# Altium integrated library CapacitoresIntiSat.IntLib: 33 symbols
Pins are listed as number, name and electrical type; pins without a type are passive.

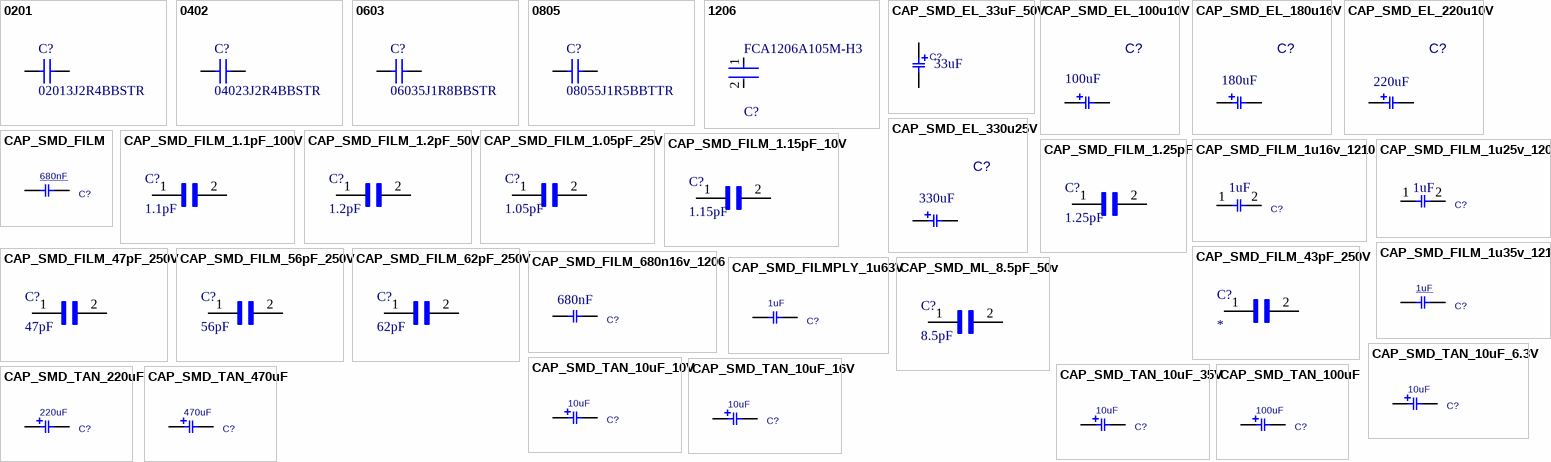
[diagram p0: symbols 0201 to CAP_SMD_TAN_470uF]

## 0201
designator C?, comment 02013J2R4BBSTR
Manufacturer: AVX Interconnect / Elco; Part Number: 02013J2R4BBSTR
footprint 0201 (CHIP Capacitor, 0.5x0.25mm, 0201)
pins: 1, 2
1 alternate drawing of the same symbol

## 0402
designator C?, comment 04023J2R4BBSTR
Manufacturer: AVX Interconnect / Elco; Part Number: 04023J2R4BBSTR
footprint CAPC1006X50X20LL10T10 (Chip Capacitor, 2-Leads, Body 1.00x0.55mm, IPC High Density)
footprint CAPC1006X50X20NL10T10 (Chip Capacitor, 2-Leads, Body 1.00x0.55mm, IPC Medium Density)
footprint CAPC1006X50X20ML10T10 (Chip Capacitor, 2-Leads, Body 1.00x0.55mm, IPC Low Density)
pins: 1, 2
1 alternate drawing of the same symbol

## 0603
designator C?, comment 06035J1R8BBSTR
Manufacturer: AVX Interconnect / Elco; Part Number: 06035J1R8BBSTR
footprint CAPC1608X73X35NL10T15 (Chip Capacitor, 2-Leads, Body 1.60x0.81mm, IPC Medium Density)
footprint CAPC1608X73X35ML10T15 (Chip Capacitor, 2-Leads, Body 1.60x0.81mm, IPC Low Density)
footprint CAPC1608X73X35LL10T15 (Chip Capacitor, 2-Leads, Body 1.60x0.81mm, IPC High Density)
pins: 1, 2
1 alternate drawing of the same symbol

## 0805
designator C?, comment 08055J1R5BBTTR
Manufacturer: AVX Interconnect / Elco; Part Number: 08055J1R5BBTTR
footprint CAPC2013X113X30LL10T10 (Chip Capacitor, 2-Leads, Body 2.01x1.27mm, IPC High Density)
footprint CAPC2013X113X30NL10T10 (Chip Capacitor, 2-Leads, Body 2.01x1.27mm, IPC Medium Density)
footprint CAPC2013X113X30ML10T10 (Chip Capacitor, 2-Leads, Body 2.01x1.27mm, IPC Low Density)
pins: 1, 2
1 alternate drawing of the same symbol

## 1206
designator C?, comment FCA1206A105M-H3
CAP FILM 1UF 20% 10VDC 1206; Manufacturer: Cornell Dubilier Electronics; Voltage Rating Ac: 12V; Material: Acrylic, Metallized; Voltage Rating: 16V; Footprint Url: https://www.cde.com/resources/catalogs/FilmChipAppGuide.pdf; Tolerance: 20%; Mouser Description: FCA Series 10 V 1 uF ±20% 1206 SMT Metallized Acrylic Fim Capacitor; Category: Cap; Digikey Description: CAP FILM 1UF 20% 10VDC 1206; Temperature Range High: +85°C; ComponentLink2URL: https://www.cde.com/resources/catalogs/FCA.pdf; Device Class L1: Passive Components; Device Class L2: Capacitors; Package: FCA1206-H3; Height: 1.6mm; Value: 1uF; Manufacturer Part Number: FCA1206A105M-H3; Lead Free: Yes; Temperature Range Low: -40°C; Automotive: No; RoHS: TRUE; Ipc Land Pattern Name: CAPC320160X140; Device Class L3: Film Capacitors; Octopart: https://octopart.com/fca1206a105m-h3-cornell+dubilier-7141523; ComponentLink2Description: Datasheet; Temperature: -40°C to +85°C; Capacitance: 1uF
footprint FP-FCA1206-H3-IPC_C
footprint FP-FCA1206-H3-IPC_A
footprint FP-FCA1206-H3-IPC_B
footprint FP-FCA1206-H3-MFG
pins: 1, 2

## CAP_SMD_EL_33uF_50V
designator C?  Capacitance: 33uF
CAP ALUM POLY HYB 33UF 50V SMD; Manufacturer: United Chemi-Con; Manufacturer Part Number: HHXB500ARA330MF80G; Dissipation Factor: 0.1%; ESR (Equivalent Series Resistance): 40mR; Polarity: Polar; Ripple Current: 1.6A; Life (Hours): 5000Hour; Tolerance: 20%; Supplier 1: Mouser; RoHS: Yes; Category: Aluminum Electrolytic Capacitors; Stock 1: 2107; Pricing 1: 1=1.43000, 10=0.98100, 100=0.84800, 500=0.80400, 900=0.54800, 1800=0.50300 (USD); Mount: Surface Mount; Case/Package: Radial; Min Operating Temperature: -55°C; Max Operating Temperature: 105°C; Termination: SMD/SMT; Voltage Rating (DC): 50V; Package Quantity: 900; Packaging: Tape and Reel; Voltage Rating: 50V; Diameter: 6.3mm; Length: 7.2mm; Height: 7.7mm; Width: 6.6mm; Height - Seated (Max): 0.315inch; REACH SVHC: Unknown; Lead Free: Lead Free; ComponentLink1URL: http://www.farnell.com/datasheets/1848398.pdf?src-supplier=Farnell; ComponentLink1Description: http://www.farnell.com/datasheets/1848398.pdf?src-supplier=Farnell; ComponentLink2URL: http://www.mouser.com/ds/2/420/al-hxb-bulletin831e-e-140325-345764.pdf?src-supplier=Mouser; ComponentLink2Description: http://www.mouser.com/ds/2/420/al-hxb-bulletin831e-e-140325-345764.pdf?src-supplier=Mouser; ComponentLink3URL: http://www.chemi-con.co.jp/cgi-bin/CAT_DB/SEARCH/cat_db_al.cgi?e=e&j=p&pdfname=hxb&src-supplier=Digi-Key; ComponentLink3Description: http://www.chemi-con.co.jp/cgi-bin/CAT_DB/SEARCH/cat_db_al.cgi?e=e&j=p&pdfname=hxb&src-supplier=Digi-Key; ComponentLink4URL: http://www.farnell.com/datasheets/2344945.pdf?src-supplier=Newark; ComponentLink4Description: http://www.farnell.com/datasheets/2344945.pdf?src-supplier=Newark; ComponentLink5URL: http://www.farnell.com/datasheets/1848398.pdf?src-supplier=Element14; ComponentLink5Description: http://www.farnell.com/datasheets/1848398.pdf?src-supplier=Element14; Supplier Part Number 1: 661-HHXB500A330MF80G
footprint C_EL_6_8 (Footprint not found)
pins: 1, 2

## CAP_SMD_EL_100u10V
designator C?  Capacitance: 100uF
CAP ALUM POLY 100UF 20% 10V SMD; Manufacturer: Wurth Electronics; Manufacturer Part Number: 875105242010; ESR (Equivalent Series Resistance): 30mR; Polarity: Polar; Ripple Current: 1.97A; Life (Hours): 2000Hour; Supplier 1: Mouser; RoHS: Yes; Category: Polymer Capacitors; Stock 1: 658; Pricing 1: 1=0.56000, 50=0.47600, 100=0.41400, 250=0.36800, 500=0.32200, 1000=0.30700 (USD); Mount: Surface Mount; Case/Package: Radial; Min Operating Temperature: -55°C; Max Operating Temperature: 105°C; Package Quantity: 1000; Packaging: Tape and Reel; Voltage Rating: 10V; Tolerance: 20%; Voltage Rating (DC): 10V; Height - Seated (Max): 0.217inch; REACH SVHC: Unknown; ComponentLink1URL: http://www.farnell.com/datasheets/1880491.pdf?src-supplier=Farnell; ComponentLink1Description: http://www.farnell.com/datasheets/1880491.pdf?src-supplier=Farnell; ComponentLink2URL: http://www.farnell.com/datasheets/1880491.pdf?src-supplier=Element14; ComponentLink2Description: http://www.farnell.com/datasheets/1880491.pdf?src-supplier=Element14; ComponentLink3URL: http://www.farnell.com/datasheets/1880491.pdf?src-supplier=Newark; ComponentLink3Description: http://www.farnell.com/datasheets/1880491.pdf?src-supplier=Newark; ComponentLink4URL: http://katalog.we-online.de/pbs/datasheet/875105242010.pdf?src-supplier=Digi-Key; ComponentLink4Description: http://katalog.we-online.de/pbs/datasheet/875105242010.pdf?src-supplier=Digi-Key; ComponentLink5URL: https://katalog.we-online.de/pbs/datasheet/875105242010.pdf?src-supplier=Digi-Key; ComponentLink5Description: https://katalog.we-online.de/pbs/datasheet/875105242010.pdf?src-supplier=Digi-Key; Supplier Part Number 1: 710-875105242010
footprint C_EL_5 (Electrolytic Cap, D: 5.0mm, L: 5.8mm, Size C)
pins: 1, 2

## CAP_SMD_EL_180u16V
designator C?  Capacitance: 180uF
PANASONIC - 16SVPE180M - CAP, 180µF, 16V, 20%, RADIAL; ESR (Equivalent Series Resistance): 11mR; Ripple Current: 4.46A; Dissipation Factor: 12%; Leakage Current: 576uA; Polarity: Polar; Life (Hours): 2000Hour; Supplier 1: Mouser; Manufacturer: Panasonic; Manufacturer Part Number: 16SVPE180M; RoHS: Yes; Category: Aluminum Electrolytic Capacitors; Stock 1: 58; Pricing 1: 1=1.46000, 10=1.14000, 100=0.86100, 500=0.56600, 1000=0.49900, 2500=0.46600, 5000=0.45300, 10000=0.42400, 25000=0.41600 (USD); Mount: Surface Mount; Case/Package: Radial; Number of Pins: 10; Min Operating Temperature: -55°C; Max Operating Temperature: 105°C; Packaging: Tape and Reel; Tolerance: 20%; Voltage Rating: 16V; Voltage Rating (DC): 16V; Package Quantity: 500; Ripple Current (AC): 4.46A; Termination: SMD/SMT; Voltage: 16V; Diameter: 6.3mm; Length: 9.9mm; Height: 9.9mm; Height - Seated (Max): 0.394inch; Radiation Hardening: No; REACH SVHC: No SVHC; Lead Free: Lead Free; ComponentLink1URL: https://datasheet.ciiva.com/26937/getdatasheetpartid-779526-26937142.pdf?src-supplier=Verical; ComponentLink1Description: https://datasheet.ciiva.com/26937/getdatasheetpartid-779526-26937142.pdf?src-supplier=Verical; ComponentLink2URL: https://datasheet.ciiva.com/25740/1734359-25740891.pdf?src-supplier=Farnell; ComponentLink2Description: https://datasheet.ciiva.com/25740/1734359-25740891.pdf?src-supplier=Farnell; ComponentLink3URL: https://datasheet.ciiva.com/22746/1734359-22746186.pdf?src-supplier=Element14; ComponentLink3Description: https://datasheet.ciiva.com/22746/1734359-22746186.pdf?src-supplier=Element14; Supplier Part Number 1: 667-16SVPE180M
footprint C_EL_6_8 (Electrolytic Cap, D: 6.3mm L: 7.7mm, Size D)
pins: 1, 2

## CAP_SMD_EL_220u10V
designator C?  Capacitance: 220uF
WURTH ELEKTRONIK         875105244013             Electrolytic Capacitor, 220 F, 10 V, WCAP-PSLP Series, Radial Can - SMD, -55 C; Manufacturer: Wurth Electronics; Voltage Rating (DC): 10V; ESR (Equivalent Series Resistance): 30mR; Polarity: Polar; Ripple Current: 1.97A; Life (Hours): 2000Hour; Tolerance: 20%; Supplier 1: Mouser; Manufacturer Part Number: 875105244013; RoHS: Yes; Category: Polymer Capacitors; Stock 1: 1916; Pricing 1: 1=0.66000, 50=0.56200, 100=0.49000, 250=0.43500, 500=0.38100, 1000=0.36300 (USD); Mount: Surface Mount; Case/Package: Radial; Min Operating Temperature: -55°C; Max Operating Temperature: 105°C; Package Quantity: 1000; Packaging: Tape and Reel; Voltage Rating: 10V; Height - Seated (Max): 0.228inch; REACH SVHC: Unknown; ComponentLink1URL: http://www.farnell.com/datasheets/1880494.pdf?src-supplier=Farnell; ComponentLink1Description: http://www.farnell.com/datasheets/1880494.pdf?src-supplier=Farnell; ComponentLink2URL: https://katalog.we-online.de/pbs/datasheet/875105244013.pdf?src-supplier=Digi-Key; ComponentLink2Description: https://katalog.we-online.de/pbs/datasheet/875105244013.pdf?src-supplier=Digi-Key; ComponentLink3URL: http://www.farnell.com/datasheets/1880494.pdf?src-supplier=Newark; ComponentLink3Description: http://www.farnell.com/datasheets/1880494.pdf?src-supplier=Newark; ComponentLink4URL: http://www.farnell.com/datasheets/1880494.pdf?src-supplier=Element14; ComponentLink4Description: http://www.farnell.com/datasheets/1880494.pdf?src-supplier=Element14; ComponentLink5URL: http://katalog.we-online.de/pbs/datasheet/875105244013.pdf?src-supplier=Digi-Key; ComponentLink5Description: http://katalog.we-online.de/pbs/datasheet/875105244013.pdf?src-supplier=Digi-Key; Supplier Part Number 1: 710-875105244013
footprint C_EL_6_6 (Electrolytic Cap, D: 6.3mm L: 5.8mm, Size D)
pins: 1, 2

## CAP_SMD_EL_330u25V
designator C?  Capacitance: 330uF
Capacitor;  Alum Electrolytic;  Cap 330 uF;  Tol 20%;  Vol-Rtg 25 VDC;  SMT;  8x10.5;  CT; Manufacturer: Panasonic; Manufacturer Part Number: EEE-1EA331UP; Ripple Current: 270mA; Life (Hours): 2000Hour; Voltage Rating: 25V; Leakage Current: 3uA; Supplier 1: Arrow Electronics; RoHS: Yes; Category: Aluminum Electrolytic Capacitors; Stock 1: 7000; Pricing 1: 500=0.19230, 1000=0.14820, 2500=0.14670, 10000=0.14520, 25000=0.14380, 50000=0.14230 (USD); Mount: Surface Mount,PCB; Case/Package: Radial; Contact Plating: Tin; Min Operating Temperature: -40°C; Max Operating Temperature: 85°C; Tolerance: 20%; Termination: SMD/SMT; Packaging: Tape and Reel; Package Quantity: 1; Voltage Rating (DC): 25V; Voltage: 25V; Ripple Current (AC): 270mA; Diameter: 8mm; Length: 10.5mm; Height: 10.2mm; Height - Seated (Max): 0.402inch; Radiation Hardening: No; Lead Free: Lead Free; REACH SVHC: No SVHC; ComponentLink1URL: https://datasheet.ciiva.com/24070/aba0000ce2-40801-24070005.pdf?src-supplier=Mouser; ComponentLink1Description: https://datasheet.ciiva.com/24070/aba0000ce2-40801-24070005.pdf?src-supplier=Mouser; ComponentLink2URL: https://datasheet.ciiva.com/46378/aba0000ce2-46378294.pdf?src-supplier=Element14; ComponentLink2Description: https://datasheet.ciiva.com/46378/aba0000ce2-46378294.pdf?src-supplier=Element14; ComponentLink3URL: https://datasheet.ciiva.com/30071/11aba0000ce2-30071959.pdf?src-supplier=Onlinecomponents.com; ComponentLink3Description: https://datasheet.ciiva.com/30071/11aba0000ce2-30071959.pdf?src-supplier=Onlinecomponents.com; ComponentLink4URL: https://datasheet.ciiva.com/31414/aba0000ce2-31414664.pdf?src-supplier=Farnell; ComponentLink4Description: https://datasheet.ciiva.com/31414/aba0000ce2-31414664.pdf?src-supplier=Farnell; ComponentLink5URL: https://datasheet.ciiva.com/46374/aba0000ce2-46374392.pdf?src-supplier=Element14; ComponentLink5Description: https://datasheet.ciiva.com/46374/aba0000ce2-46374392.pdf?src-supplier=Element14; ComponentLink6URL: https://datasheet.ciiva.com/16397/aba0000ce2-16397068.pdf?src-supplier=Future+Electronics; ComponentLink6Description: https://datasheet.ciiva.com/16397/aba0000ce2-16397068.pdf?src-supplier=Future+Electronics; ComponentLink7URL: https://datasheet.ciiva.com/17535/aba0000ce2-17535308.pdf?src-supplier=Avnet+Europe; ComponentLink7Description: https://datasheet.ciiva.com/17535/aba0000ce2-17535308.pdf?src-supplier=Avnet+Europe; ComponentLink8URL: https://datasheet.ciiva.com/2985/aba0000ce2-2985133.pdf?src-supplier=Avnet; ComponentLink8Description: https://datasheet.ciiva.com/2985/aba0000ce2-2985133.pdf?src-supplier=Avnet; ComponentLink9URL: https://datasheet.ciiva.com/14610/70255710-14610287.pdf?src-supplier=Allied+Electronics; ComponentLink9Description: https://datasheet.ciiva.com/14610/70255710-14610287.pdf?src-supplier=Allied+Electronics; Supplier Part Number 1: EEE-1EA331UP
footprint C_EL_8 (Electrolytic Capacitor, Size E, Size F, 8X10)
pins: 1, 2

## CAP_SMD_FILM
designator C?, comment 680nF
CAP, FILM, 680nF, 16V, Acryl, 20%, 1206; PARAM: Acrylic, MetallizedStacked, 20%, -40~85oC; MANF: Murata; PRICE: 100= 40$; DESC: -; MANF_P#: -; PARAM2: 16V; ASSEMBLY: ASSEMBLY; VALUE: 680nF
footprint C1206 (CHIP Capacitor, 3.2X1.6mm, 1206)
pins: 1, 2

## CAP_SMD_FILM_1.1pF_100V
designator C?, comment 1.1pF
Silicon RF Capacitors / Thin Film 100V 1.1pF 0.02pFTol ThinFilm 0603
footprint 0603 (1608, 160X80, 1.6x0.8mm (1.75x0.95mm))
pins: 1, 2

## CAP_SMD_FILM_1.2pF_50V
designator C?, comment 1.2pF
Silicon RF Capacitors / Thin Film 50V 1.2pF .02pFTol T hinFilm 0603
footprint 0603 (1608, 160X80, 1.6x0.8mm (1.75x0.95mm))
pins: 1, 2

## CAP_SMD_FILM_1.05pF_25V
designator C?, comment 1.05pF
Silicon RF Capacitors / Thin Film 25V 1.05pF .02pFTol ThinFilm 0402
footprint 0402 (0402, 1005, 100X50, 1.00x0.5mm ( 1.1x0.6mm))
pins: 1, 2

## CAP_SMD_FILM_1.15pF_10V
designator C?, comment 1.15pF
/ Silicon RF Capacitors / Thin Film 10V 1.15pF .02pFTol ThinFilm 0201
footprint 0201 (CHIP Capacitor, 0.5x0.25mm, 0201)
pins: 1, 2

## CAP_SMD_FILM_1.25pF
designator C?, comment 1.25pF
Cap Silicon 1.25pF 10V 0±30ppm/°C 0.02pF SMD 0201 125°C T/R
footprint 0201 (CHIP Capacitor, 0.5x0.25mm, 0201)
pins: 1, 2

## CAP_SMD_FILM_1u16v_1210
designator C?  Capacitance: 1uF
Cap Film 1uF 16V 20% (3.2 X 2.5 X 1.4mm) SMD 85C T/R; Manufacturer: Panasonic; Manufacturer Part Number: ECP-U1C105MA5; Dielectric: PPS; Insulation Resistance: 300MR; Dissipation Factor: 1.5%; Supplier 1: Mouser; RoHS: Yes; Category: Film Capacitors; Stock 1: 1330; Pricing 1: 1=0.64000, 10=0.48300, 100=0.34400, 500=0.28800, 1000=0.24200, 2000=0.19500 (USD); Mount: Surface Mount; Case/Package: 1210; Number of Pins: 2; Case Code (Metric): 3225; Case Code (Imperial): 1210; Contact Plating: Copper,Tin,Silver; Min Operating Temperature: -40°C; Max Operating Temperature: 85°C; Tolerance: 20%; Termination: SMD/SMT; Packaging: Tape and Reel; Package Quantity: 1; Voltage Rating (DC): 16V; Voltage: 16V; Voltage Rating: 16V; Length: 3.2mm; Height: 1.4mm; Height - Seated (Max): 0.063inch; Depth: 2.5mm; Width: 2.5mm; Radiation Hardening: No; Lead Free: Lead Free; REACH SVHC: No SVHC; ComponentLink1URL: https://datasheet.ciiva.com/34303/1983192-34303533.pdf?src-supplier=Jameco; ComponentLink1Description: https://datasheet.ciiva.com/34303/1983192-34303533.pdf?src-supplier=Jameco; ComponentLink2URL: https://datasheet.ciiva.com/11790/0900766b80f2ea72-11790686.pdf?src-supplier=RSComponents; ComponentLink2Description: https://datasheet.ciiva.com/11790/0900766b80f2ea72-11790686.pdf?src-supplier=RSComponents; ComponentLink3URL: https://datasheet.ciiva.com/24023/abd0000ce12-181823-24023616.pdf?src-supplier=Mouser; ComponentLink3Description: https://datasheet.ciiva.com/24023/abd0000ce12-181823-24023616.pdf?src-supplier=Mouser; ComponentLink4URL: https://datasheet.ciiva.com/15164/getdatasheetpartid-292104-15164029.pdf?src-supplier=Verical; ComponentLink4Description: https://datasheet.ciiva.com/15164/getdatasheetpartid-292104-15164029.pdf?src-supplier=Verical; ComponentLink5URL: https://datasheet.ciiva.com/16433/abd0000ce12-16433502.pdf?src-supplier=Future+Electronics; ComponentLink5Description: https://datasheet.ciiva.com/16433/abd0000ce12-16433502.pdf?src-supplier=Future+Electronics; ComponentLink6URL: https://datasheet.ciiva.com/2992/abd0000ce12-2992994.pdf?src-supplier=Avnet; ComponentLink6Description: https://datasheet.ciiva.com/2992/abd0000ce12-2992994.pdf?src-supplier=Avnet; ComponentLink7URL: https://datasheet.ciiva.com/2992/abd0000ce12-2992995.pdf?src-supplier=Avnet; ComponentLink7Description: https://datasheet.ciiva.com/2992/abd0000ce12-2992995.pdf?src-supplier=Avnet; ComponentLink8URL: https://datasheet.ciiva.com/5710/31740-5710134.pdf?src-supplier=Farnell; ComponentLink8Description: https://datasheet.ciiva.com/5710/31740-5710134.pdf?src-supplier=Farnell; ComponentLink9URL: https://datasheet.ciiva.com/30120/abd0000ce12-30120298.pdf?src-supplier=Onlinecomponents.com; ComponentLink9Description: https://datasheet.ciiva.com/30120/abd0000ce12-30120298.pdf?src-supplier=Onlinecomponents.com; ComponentLink10URL: https://datasheet.ciiva.com/46399/31740-46399787.pdf?src-supplier=Element14; ComponentLink10Description: https://datasheet.ciiva.com/46399/31740-46399787.pdf?src-supplier=Element14; ComponentLink11URL: https://datasheet.ciiva.com/46399/31740-46399788.pdf?src-supplier=Element14; ComponentLink11Description: https://datasheet.ciiva.com/46399/31740-46399788.pdf?src-supplier=Element14; Supplier Part Number 1: 667-ECP-U1C105MA5
footprint C1210 (CHIP Capacitor, 3.2X2.5mm, 1210, 3225)
pins: 1, 2

## CAP_SMD_FILM_1u25v_1206
designator C?  Capacitance: 1uF
Cap Film 1UF 20% 25V SMD; Manufacturer: Rubycon; Manufacturer Part Number: 25MU105MA23216; Supplier 1: Mouser; RoHS: Yes; Category: Film Capacitors; Stock 1: 1645; Pricing 1: 1=4.63000, 10=3.73000, 25=2.92000, 100=2.53000, 250=2.08000, 500=1.88000, 1000=1.69000, 3000=1.65000 (USD); Mount: Surface Mount; Case/Package: 1206; Case Code (Metric): 3216; Case Code (Imperial): 1206; Min Operating Temperature: -55°C; Max Operating Temperature: 125°C; Package Quantity: 200; Packaging: Tape and Reel; Voltage Rating (DC): 25V; Tolerance: 20%; Length: 0.126inch; Width: 0.063inch; Height - Seated (Max): 0.062inch; ComponentLink1URL: http://www.rubycon.co.jp/en/catalog/e_pdfs/pmlcap/e_MU.pdf?src-supplier=Digi-Key; ComponentLink1Description: http://www.rubycon.co.jp/en/catalog/e_pdfs/pmlcap/e_MU.pdf?src-supplier=Digi-Key; Supplier Part Number 1: 232-25MU105MA23216
footprint C1206 (CHIP Capacitor, 3.2X1.6mm, 1206)
pins: 1, 2

## CAP_SMD_FILM_1u35v_1210
designator C?, comment 1uF
CAP, FILM, 680nF, 35V, Acryl, 20%, 1210; PARAM: AcrylicMetallized, 20%, -55~125oC; MANF_P#: 35ST105MB13225; MANF: Rubycon; PRICE: 100= 270$; DESC: -; PARAM2: 35V; ASSEMBLY: ASSEMBLY; VALUE: 1uF
footprint C1210 (CHIP Capacitor, 3.2X2.5mm, 1210, 3225)
pins: 1, 2

## CAP_SMD_FILM_43pF_250V
designator C?
Silicon RF Capacitors / Thin Film 250volts 43pF 1%
footprint 0603 (1608, 160X80, 1.6x0.8mm (1.75x0.95mm))
pins: 1, 2

## CAP_SMD_FILM_47pF_250V
designator C?, comment 47pF
Silicon RF Capacitors / Thin Film 250volts 47pF 1%
footprint 0603 (1608, 160X80, 1.6x0.8mm (1.75x0.95mm))
pins: 1, 2

## CAP_SMD_FILM_56pF_250V
designator C?, comment 56pF
Silicon RF Capacitors / Thin Film 250volts 56pF 1%
footprint 0603 (1608, 160X80, 1.6x0.8mm (1.75x0.95mm))
pins: 1, 2

## CAP_SMD_FILM_62pF_250V
designator C?, comment 62pF
/ Silicon RF Capacitors / Thin Film 250volts 62pF 1%
footprint 0805 (,0805, 2012, 200X130)
pins: 1, 2

## CAP_SMD_FILM_680n16v_1206
designator C?  Capacitance: 680nF
CAPACITOR PPS FILM, 0.68UF, 16V, 20%, 1206, FULL REEL; Product Range:ECPU(A) Series; Capacitance:0.68 F; Capacitance Tolerance: 20%; Capacitor Dielectric Type:PPS (Polyphenylene Sulphide); Voltage Rating:16V; Capacitor Terminals:SMD;RoHS Compliant: Yes; Manufacturer: Panasonic; Manufacturer Part Number: ECP-U1C684MA5; Dissipation Factor: 1.5%; Insulation Resistance: 204MR; Supplier 1: Mouser; RoHS: Yes; Category: Film Capacitors; Stock 1: 2159; Pricing 1: 1=0.79000, 10=0.59900, 100=0.41100, 500=0.32500, 1000=0.27400, 2000=0.22700, 24000=0.21500 (USD); Mount: Surface Mount; Case/Package: 1206; Number of Pins: 2; Case Code (Metric): 3216; Case Code (Imperial): 1206; Contact Plating: Copper,Tin,Silver; Min Operating Temperature: -40°C; Max Operating Temperature: 85°C; Tolerance: 20%; Packaging: Tape and Reel; Package Quantity: 1; Voltage Rating (DC): 16V; Voltage Rating: 16V; Termination: SMD/SMT; Dielectric: PPS; Voltage: 16V; Length: 3.2mm; Height: 1.4mm; Width: 1.6mm; Height - Seated (Max): 0.063inch; Depth: 1.6mm; Radiation Hardening: No; REACH SVHC: No SVHC; Lead Free: Lead Free; ComponentLink1URL: https://datasheet.ciiva.com/5710/31740-5710144.pdf?src-supplier=Farnell; ComponentLink1Description: https://datasheet.ciiva.com/5710/31740-5710144.pdf?src-supplier=Farnell; ComponentLink2URL: https://datasheet.ciiva.com/15225/getdatasheetpartid-259011-15225611.pdf?src-supplier=Verical; ComponentLink2Description: https://datasheet.ciiva.com/15225/getdatasheetpartid-259011-15225611.pdf?src-supplier=Verical; ComponentLink3URL: https://datasheet.ciiva.com/11792/0900766b80f2ea72-11792215.pdf?src-supplier=RSComponents; ComponentLink3Description: https://datasheet.ciiva.com/11792/0900766b80f2ea72-11792215.pdf?src-supplier=RSComponents; ComponentLink4URL: https://datasheet.ciiva.com/46399/31740-46399767.pdf?src-supplier=Element14; ComponentLink4Description: https://datasheet.ciiva.com/46399/31740-46399767.pdf?src-supplier=Element14; ComponentLink5URL: https://datasheet.ciiva.com/46400/31740-46400041.pdf?src-supplier=Element14; ComponentLink5Description: https://datasheet.ciiva.com/46400/31740-46400041.pdf?src-supplier=Element14; ComponentLink6URL: https://datasheet.ciiva.com/2993/abd0000ce12-2993739.pdf?src-supplier=Avnet; ComponentLink6Description: https://datasheet.ciiva.com/2993/abd0000ce12-2993739.pdf?src-supplier=Avnet; ComponentLink7URL: https://datasheet.ciiva.com/30243/abd0000ce12-30243739.pdf?src-supplier=Onlinecomponents.com; ComponentLink7Description: https://datasheet.ciiva.com/30243/abd0000ce12-30243739.pdf?src-supplier=Onlinecomponents.com; ComponentLink8URL: https://datasheet.ciiva.com/16397/abd0000ce12-16397064.pdf?src-supplier=Future+Electronics; ComponentLink8Description: https://datasheet.ciiva.com/16397/abd0000ce12-16397064.pdf?src-supplier=Future+Electronics; ComponentLink9URL: https://datasheet.ciiva.com/17630/abd0000ce12-17630655.pdf?src-supplier=Avnet+Europe; ComponentLink9Description: https://datasheet.ciiva.com/17630/abd0000ce12-17630655.pdf?src-supplier=Avnet+Europe; Supplier Part Number 1: 667-ECP-U1C684MA5
footprint C1206 (CHIP Capacitor, 3.2X1.6mm, 1206)
pins: 1, 2

## CAP_SMD_FILMPLY_1u63V
designator C?, comment 1uF
CAPACITOR, 2220, 1UF, 63V; Manufacturer: WIMA; Manufacturer Part Number: SMDTC04100QB00KQ00; Dielectric Material: Polyester; Voltage Rating (AC): 40V; Tolerance: 10%; Dielectric: PET; Life (Hours): 300000Hour; Supplier 1: Mouser; RoHS: Yes; Category: Film Capacitors; Pricing 1: 1=1.13000, 10=0.89800, 100=0.67300, 500=0.50800, 1000=0.44900, 1500=0.41900, 4500=0.40400, 9000=0.39000, 24000=0.38100 (USD); Case/Package: 2220; Number of Pins: 2; Weight: 0.016932oz; Case Code (Imperial): 2220; Case Code (Metric): 5650; Min Operating Temperature: -55°C; Max Operating Temperature: 100°C; Capacitance: 1uF; Packaging: Tape and Reel; Voltage Rating: 63V; Voltage Rating (DC): 63V; Termination: SMD/SMT; Length: 5.7mm; Lead Pitch: 4.5mm; Depth: 5.1mm; REACH SVHC: No SVHC; ComponentLink1URL: https://datasheet.ciiva.com/5795/1674204-5795142.pdf?src-supplier=Farnell; ComponentLink1Description: https://datasheet.ciiva.com/5795/1674204-5795142.pdf?src-supplier=Farnell; ComponentLink2URL: https://datasheet.ciiva.com/5795/1674204-5795143.pdf?src-supplier=Farnell; ComponentLink2Description: https://datasheet.ciiva.com/5795/1674204-5795143.pdf?src-supplier=Farnell; ComponentLink3URL: https://datasheet.ciiva.com/8034/1674204-8034634.pdf?src-supplier=Element14; ComponentLink3Description: https://datasheet.ciiva.com/8034/1674204-8034634.pdf?src-supplier=Element14; Supplier Part Number 1: 505-PET22-1/63/10; VALUE: 1uF
footprint C2225 (Chip Capacitor, 5.6x6.4mm, 2225, 5664, 2220)
pins: 1, 2

## CAP_SMD_ML_8.5pF_50v
designator C?, comment 8.5pF
Capacitor, RF, C0G / NP0, 8.5 pF, 50 V, HiQ-CBR Series, ± 0.1pF, 125 °C, 0402 [1005 Metric]
footprint 0402 (0402, 1005, 100X50, 1.00x0.5mm ( 1.1x0.6mm))
pins: 1, 2

## CAP_SMD_TAN_10uF_6.3V
designator C?, comment 10uF
Cap Tant Solid 10uF 6.3V A CASE 20% (3.2 X 1.6 X 1.6mm) SMD 3216-18 0.3 Ohm 105°C T/R; Manufacturer: Vishay Sprague; Manufacturer Part Number: T55A106M6R3C0300; Supplier 1: Mouser; RoHS: No; Category: Tantalum Capacitors; Stock 1: 2279; Pricing 1: 1=0.45000, 50=0.41000, 100=0.36300, 500=0.35200, 1000=0.30000, 2000=0.29700 (USD); Supplier Part Number 1: 74-T55A106M6R3C0300; VALUE: 10uF
footprint C_TN_3216 (CAPACITOR, TAN A, 1206P, 3.2x1.6mm)
pins: 1, 2

## CAP_SMD_TAN_10uF_10V
designator C?, comment 10uF
Cap Tant Solid 10uF 10V A CASE 20% (3.2 X 1.6 X 1.6mm) SMD 3216-18 0.3 Ohm 105°C T/R; Manufacturer: Vishay Sprague; Manufacturer Part Number: T55A106M010C0300; Supplier 1: Mouser; RoHS: No; Category: Tantalum Capacitors; Stock 1: 1203; Pricing 1: 1=0.45000, 50=0.41000, 100=0.36300, 500=0.35200, 1000=0.30000, 2000=0.29700 (USD); Supplier Part Number 1: 74-T55A106M010C0300; VALUE: 10uF
footprint C_TN_3216 (CAPACITOR, TAN A, 1206P, 3.2x1.6mm)
pins: 1, 2

## CAP_SMD_TAN_10uF_16V
designator C?, comment 10uF
CAP TANT POLY 10UF 16V 1210; Manufacturer: Kyocera AVX; Manufacturer Part Number: TCJT106M016R0200; Tolerance: 20%; ESR (Equivalent Series Resistance): 200mR; Leakage Current: 16uA; Dissipation Factor: 6%; Supplier 1: Mouser; RoHS: Yes; Category: Tantalum Capacitors; Stock 1: 1209; Pricing 1: 1=0.80000, 10=0.60800, 100=0.43500, 500=0.33700, 1000=0.29000, 2500=0.27200 (USD); Mount: Surface Mount; Case/Package: 1210; Case Code (Imperial): 1210; Case Code (Metric): 3528; Min Operating Temperature: -55°C; Max Operating Temperature: 125°C; Capacitance: 10uF; Termination: SMD/SMT; Voltage: 16V; Packaging: Tape and Reel; Package Quantity: 2500; Voltage Rating (DC): 16V; Voltage Rating: 16V; Length: 3.5mm; Height: 1.2mm; Depth: 2.8mm; Height - Seated (Max): 0.047inch; Width: 2.8mm; Radiation Hardening: No; ComponentLink1URL: https://datasheet.ciiva.com/11793/0900766b80eff593-11793120.pdf?src-supplier=RSComponents; ComponentLink1Description: https://datasheet.ciiva.com/11793/0900766b80eff593-11793120.pdf?src-supplier=RSComponents; ComponentLink2URL: https://datasheet.ciiva.com/11231/tcj-11231109.pdf?src-supplier=Avnet; ComponentLink2Description: https://datasheet.ciiva.com/11231/tcj-11231109.pdf?src-supplier=Avnet; ComponentLink3URL: https://datasheet.ciiva.com/6238/tcj-6238575.pdf?src-supplier=Digi-Key; ComponentLink3Description: https://datasheet.ciiva.com/6238/tcj-6238575.pdf?src-supplier=Digi-Key; Supplier Part Number 1: 581-TCJT106M016R0200; VALUE: 10uF
footprint C_TN_3528 (CAPACITOR, TAN B, TAN H, TAN T, TAN M, 3528P, 1210P, 3.5X2.8mm)
pins: 1, 2

## CAP_SMD_TAN_10uF_35V
designator C?, comment 10uF
VISHAY - 593D106X9035D2TE3 - Surface Mount Tantalum Capacitor, TANTAMOUNT®, 10 µF, 35 V, 2917 [7343 Metric], 593D Series, ± 10%; Manufacturer: Vishay Sprague; ESR (Equivalent Series Resistance): 300mR; Voltage: 35V; Ripple Current: 710uA; Leakage Current: 3.5uA; Polarity: Polar; Dissipation Factor: 6%; Supplier 1: Mouser; Manufacturer Part Number: 593D106X9035D2TE3; RoHS: Yes; Category: Tantalum Capacitors; Stock 1: 9686; Pricing 1: 1=1.05000, 10=0.73000, 100=0.61500, 500=0.46400, 1000=0.41000, 2500=0.33500, 10000=0.31700, 25000=0.31100, 50000=0.30200 (USD); Mount: Surface Mount,PCB; Case/Package: 2917; Number of Pins: 2; Case Code (Metric): 7343; Case Code (Imperial): 2917; Dielectric Material: Tantalum; Min Operating Temperature: -55°C; Max Operating Temperature: 125°C; Capacitance: 10uF; Tolerance: 10%; Packaging: Tape and Reel; Voltage Rating (DC): 35V; Voltage Rating: 35V; Package Quantity: 1; Termination: SMD/SMT; Features: General Purpose; Length: 7.3mm; Height: 2.8mm; Depth: 4.3mm; Width: 0.169inch; Height - Seated (Max): 0.122inch; Radiation Hardening: No; Lead Free: Lead Free; REACH SVHC: Unknown; ComponentLink1URL: https://datasheet.ciiva.com/27055/1933216-27055034.pdf?src-supplier=Jameco; ComponentLink1Description: https://datasheet.ciiva.com/27055/1933216-27055034.pdf?src-supplier=Jameco; ComponentLink2URL: https://datasheet.ciiva.com/1463/1716413-1463804.pdf?src-supplier=Element14; ComponentLink2Description: https://datasheet.ciiva.com/1463/1716413-1463804.pdf?src-supplier=Element14; ComponentLink3URL: https://datasheet.ciiva.com/16203/593d-16203653.pdf?src-supplier=Future+Electronics; ComponentLink3Description: https://datasheet.ciiva.com/16203/593d-16203653.pdf?src-supplier=Future+Electronics; ComponentLink4URL: https://datasheet.ciiva.com/16632/593d-16632310.pdf?src-supplier=Avnet+Europe; ComponentLink4Description: https://datasheet.ciiva.com/16632/593d-16632310.pdf?src-supplier=Avnet+Europe; ComponentLink5URL: https://datasheet.ciiva.com/3004/593d-3004055.pdf?src-supplier=Avnet; ComponentLink5Description: https://datasheet.ciiva.com/3004/593d-3004055.pdf?src-supplier=Avnet; ComponentLink6URL: https://datasheet.ciiva.com/260/593d-260232.pdf?src-supplier=Digi-Key; ComponentLink6Description: https://datasheet.ciiva.com/260/593d-260232.pdf?src-supplier=Digi-Key; ComponentLink7URL: https://datasheet.ciiva.com/12882/593d-239975-12882584.pdf?src-supplier=Mouser; ComponentLink7Description: https://datasheet.ciiva.com/12882/593d-239975-12882584.pdf?src-supplier=Mouser; ComponentLink8URL: https://datasheet.ciiva.com/260/593d-260233.pdf?src-supplier=Digi-Key; ComponentLink8Description: https://datasheet.ciiva.com/260/593d-260233.pdf?src-supplier=Digi-Key; ComponentLink9URL: https://datasheet.ciiva.com/260/593d-260234.pdf?src-supplier=Digi-Key; ComponentLink9Description: https://datasheet.ciiva.com/260/593d-260234.pdf?src-supplier=Digi-Key; ComponentLink10URL: https://datasheet.ciiva.com/46382/1748035-46382046.pdf?src-supplier=Element14; ComponentLink10Description: https://datasheet.ciiva.com/46382/1748035-46382046.pdf?src-supplier=Element14; ComponentLink11URL: https://datasheet.ciiva.com/29244/456514-da-01-en-smd-kondensator-593d106x9035d2te3-500-st-29244373.pdf?src-supplier=Conrad; ComponentLink11Description: https://datasheet.ciiva.com/29244/456514-da-01-en-smd-kondensator-593d106x9035d2te3-500-st-29244373.pdf?src-supplier=Conrad; Supplier Part Number 1: 74-593D106X9035D2TE3; VALUE: 10uF
footprint C_TN_7343 (CAPACITOR, TAN D, TAN E, TAN Y, TAN X, 7343P, 7.3X4.3mm)
pins: 1, 2

## CAP_SMD_TAN_100uF
designator C?, comment 100uF
CAP TANT POLY 100UF 16V 2917; Manufacturer: Kyocera AVX; Manufacturer Part Number: TCJD107M016R0050; Life (Hours): 2000Hour; Dissipation Factor: 6%; Tolerance: 20%; ESR (Equivalent Series Resistance): 50mR; Leakage Current: 160uA; Ripple Current: 1.5A; Supplier 1: Mouser; RoHS: Yes; Category: Polymer Capacitors; Stock 1: 736; Pricing 1: 1=1.83000, 10=1.44000, 100=1.08000, 500=0.96700, 1000=0.96700, 2500=0.96700 (USD); Mount: Surface Mount; Case/Package: 2917; Weight: 0.023634oz; Case Code (Imperial): 2917; Case Code (Metric): 7343; Min Operating Temperature: -55°C; Max Operating Temperature: 105°C; Features: General Purpose; Capacitance: 100uF; Voltage Rating: 16V; Packaging: Tape and Reel; Package Quantity: 500; Voltage Rating (DC): 16V; Termination: SMD/SMT; Length: 7.3mm; Height: 2.9mm; Height - Seated (Max): 0.122inch; Depth: 4.3mm; Width: 0.169inch; Radiation Hardening: No; ComponentLink1URL: https://datasheet.ciiva.com/24216/tcj-276795-24216145.pdf?src-supplier=Mouser; ComponentLink1Description: https://datasheet.ciiva.com/24216/tcj-276795-24216145.pdf?src-supplier=Mouser; ComponentLink2URL: https://datasheet.ciiva.com/48676/tcj-48676395.pdf?src-supplier=Avnet; ComponentLink2Description: https://datasheet.ciiva.com/48676/tcj-48676395.pdf?src-supplier=Avnet; Supplier Part Number 1: 581-TCJD107M016R0050; VALUE: 100uF
footprint C_TN_7343 (CAPACITOR, TAN D, TAN E, TAN Y, TAN X, 7343P, 7.3X4.3mm)
pins: 1, 2

## CAP_SMD_TAN_220uF
designator C?, comment 220uF
Cap Tant Solid 220uF 6.3V D CASE 20% (7.3 X 4.3 X 2.8mm) SMD 7343-30 0.035 Ohm 105°C T/R; Manufacturer: Vishay Sprague; Manufacturer Part Number: T55D227M6R3C0035; Supplier 1: Mouser; RoHS: No; Category: Tantalum Capacitors; Stock 1: 440; Pricing 1: 1=0.98000, 50=0.90000, 100=0.77100, 500=0.74000, 1000=0.70000, 2000=0.70000 (USD); Supplier Part Number 1: 74-T55D227M6R3C0035; VALUE: 220uF
footprint C_TN_7343 (CAPACITOR, TAN D, TAN E, TAN Y, TAN X, 7343P, 7.3X4.3mm)
pins: 1, 2

## CAP_SMD_TAN_470uF
designator C?, comment 470uF
CAP TANT POLY 470UF 16V 2924; Manufacturer: Kyocera AVX; Manufacturer Part Number: TCN4477M016R0100; Tolerance: 20%; Life (Hours): 2000Hour; ESR (Equivalent Series Resistance): 100mR; Supplier 1: Arrow Electronics; RoHS: Yes; Category: Polymer Capacitors; Stock 1: 90; Pricing 1: 1=4.07500, 10=3.70700, 25=3.66900 (USD); Mount: Surface Mount; Case/Package: 2924; Case Code (Imperial): 2924; Case Code (Metric): 7361; Min Operating Temperature: -55°C; Max Operating Temperature: 85°C; Features: General Purpose; Packaging: Tape and Reel; Capacitance: 470uF; Voltage Rating: 16V; Length: 0.287inch; Width: 0.24inch; Height - Seated (Max): 0.079inch; Lead Free: Lead Free; ComponentLink1URL: http://www.farnell.com/datasheets/2602425.pdf?src-supplier=Farnell; ComponentLink1Description: http://www.farnell.com/datasheets/2602425.pdf?src-supplier=Farnell; ComponentLink2URL: http://catalogs.avx.com/TantalumNiobium.pdf?src-supplier=Digi-Key; ComponentLink2Description: http://catalogs.avx.com/TantalumNiobium.pdf?src-supplier=Digi-Key; ComponentLink3URL: http://datasheets.avx.com/TCN_Undertab.pdf?src-supplier=Digi-Key; ComponentLink3Description: http://datasheets.avx.com/TCN_Undertab.pdf?src-supplier=Digi-Key; Supplier Part Number 1: TCN4477M016R0100; VALUE: 470uF
footprint C_TN_7361 (CAPACITOR, TAN V, 2924, 7361, 7.3X6.1mm)
pins: 1, 2